# Altium schematic symbol library ADG774A-LFCSP16.SchLib: 1 symbol
Pins are listed as number, name and electrical type; pins without a type are passive.

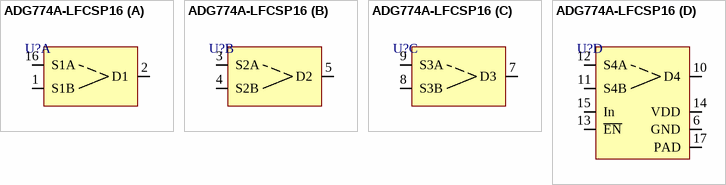
[diagram p0: symbol ADG774A-LFCSP16]

## ADG774A-LFCSP16
designator U?  (value not drawn)
part A pins: 1 S1B, 2 D1, 16 S1A
part B pins: 3 S2A, 4 S2B, 5 D2
part C pins: 7 D3, 8 S3B, 9 S3A
part D pins: 6 GND (power), 10 D4, 11 S4B, 12 S4A, 13 ~{EN} (in), 14 VDD (power), 15 In (in), 17 PAD (power)